# EAGLE library part LCD-16X2 (library _MyComponents)
Standard text-only 16x2 parallel input LCD
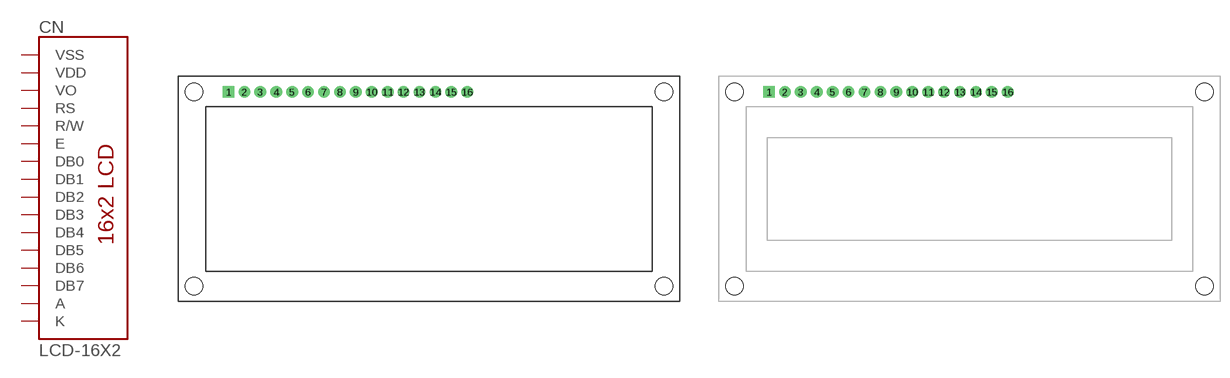
[diagram p3: symbol with the pads of LCD-16X2; footprints LCD-16X2, LCD-16X2_NOSILK]

Designator prefix CN

## LCD-16X2SILK  [LCD-16X2]
1  VSS
2  VDD
3  VO
4  RS
5  R/W
6  E
7  DB0
8  DB1
9  DB2
10  DB3
11  DB4
12  DB5
13  DB6
14  DB7
15  A
16  K

## LCD-16X2NOSILK  [LCD-16X2_NOSILK]
Pads as for LCD-16X2

## LCD-16X28X2  [LCD-8X2]
Pads as for LCD-16X2

## LCD-16X28X2-KIT  [LCD-8X2-KIT]
Pads as for LCD-16X2

## LCD-16X2LCD-16X2SIMPLECN  [LCD-16X2_NOHOLES]
Pads as for LCD-16X2

## Footprint LCD-16X2 (pad centres in mm)
drill 1.016 pad 1.88 square: 1 -32,15.5
drill 1.016 pad 1.88: 2 -29.46,15.5; 3 -26.92,15.5; 4 -24.38,15.5; 5 -21.84,15.5; 6 -19.3,15.5; 7 -16.76,15.5; 8 -14.22,15.5; 9 -11.68,15.5; 10 -9.14,15.5; 11 -6.6,15.5; 12 -4.06,15.5; 13 -1.52,15.5; 14 1.02,15.5; 15 3.56,15.5; 16 6.1,15.5
hole 2.8 at -37.5,15.5
hole 2.8 at -37.5,-15.5
hole 2.8 at 37.5,15.5
hole 2.8 at 37.5,-15.5

## Footprint LCD-16X2_NOSILK (pad centres in mm)
drill 1.016 pad 1.88 square: 1 -32,15.5
drill 1.016 pad 1.88: 2 -29.46,15.5; 3 -26.92,15.5; 4 -24.38,15.5; 5 -21.84,15.5; 6 -19.3,15.5; 7 -16.76,15.5; 8 -14.22,15.5; 9 -11.68,15.5; 10 -9.14,15.5; 11 -6.6,15.5; 12 -4.06,15.5; 13 -1.52,15.5; 14 1.02,15.5; 15 3.56,15.5; 16 6.1,15.5
hole 2.8 at -37.5,15.5
hole 2.8 at -37.5,-15.5
hole 2.8 at 37.5,15.5
hole 2.8 at 37.5,-15.5

## Footprint LCD-8X2 (pad centres in mm)
8x2 Character LCD w/ Backlight Outer Dimensions: 40.0 x 35.4mm Viewing Area: 26.4 x 13.9mm Character Size: 2.95 x 4.75mm For Reference, see Amotec Display part ADM0802A (http://amotec-display.com/pdf/ADM0802A.pdf). ***Footprint Unproven***
drill 1 pad 1.778: 1 -7.62,13.73; 2 -7.62,16.27; 3 -5.08,13.73; 4 -5.08,16.27; 5 -2.54,13.73; 6 -2.54,16.27; 7 0,13.73; 8 0,16.27; 9 2.54,13.73; 10 2.54,16.27; 11 5.08,13.73; 12 5.08,16.27; 13 7.62,13.73; 14 7.62,16.27; 15 10.16,13.73; 16 10.16,16.27
hole 2 at 18,15
hole 2 at -18,15
hole 2 at -18,-15
hole 2 at 18,-15

## Footprint LCD-8X2-KIT (pad centres in mm)
LCD-8X2-KIT 8x2 LCD Warning: This is the KIT version of this package. This package has a smaller diameter top stop mask, which doesn't cover the diameter of the pad. This means only the bottom side of the pads' copper will be exposed. You'll only be able to solder to the bottom side.
drill 1 pad 1.778: 1 -7.62,13.73; 2 -7.62,16.27; 3 -5.08,13.73; 4 -5.08,16.27; 5 -2.54,13.73; 6 -2.54,16.27; 7 0,13.73; 8 0,16.27; 9 2.54,13.73; 10 2.54,16.27; 11 5.08,13.73; 12 5.08,16.27; 13 7.62,13.73; 14 7.62,16.27; 15 10.16,13.73; 16 10.16,16.27
hole 2 at 18,15
hole 2 at -18,15
hole 2 at -18,-15
hole 2 at 18,-15

## Footprint LCD-16X2_NOHOLES (pad centres in mm)
drill 1.016 offset: 1 -18.03,0.26
drill 1.016 pad 1.676 long: 2 -15.49,0.26
drill 1.016 long: 3 -12.95,0.26; 4 -10.41,0.26; 5 -7.87,0.26; 6 -5.33,0.26; 7 -2.79,0.26; 8 -0.25,0.26; 9 2.29,0.26; 10 4.83,0.26; 11 7.37,0.26; 12 9.91,0.26; 13 12.45,0.26; 14 14.99,0.26; 15 17.53,0.26; 16 20.07,0.26